# Altium footprint library TPI_time_timer.PcbLib: 36 footprints (part 2 of 3)
Each footprint in its own frame and in the unit in brackets; x right, y up, seen from the top. Pads: shape width x height; smd on the part's side, far side on the other; paste and mask are expansions set on the pad; w line width, h text height; cw(c..) or ccw(c..) is an arc to the next point about the centre after c.
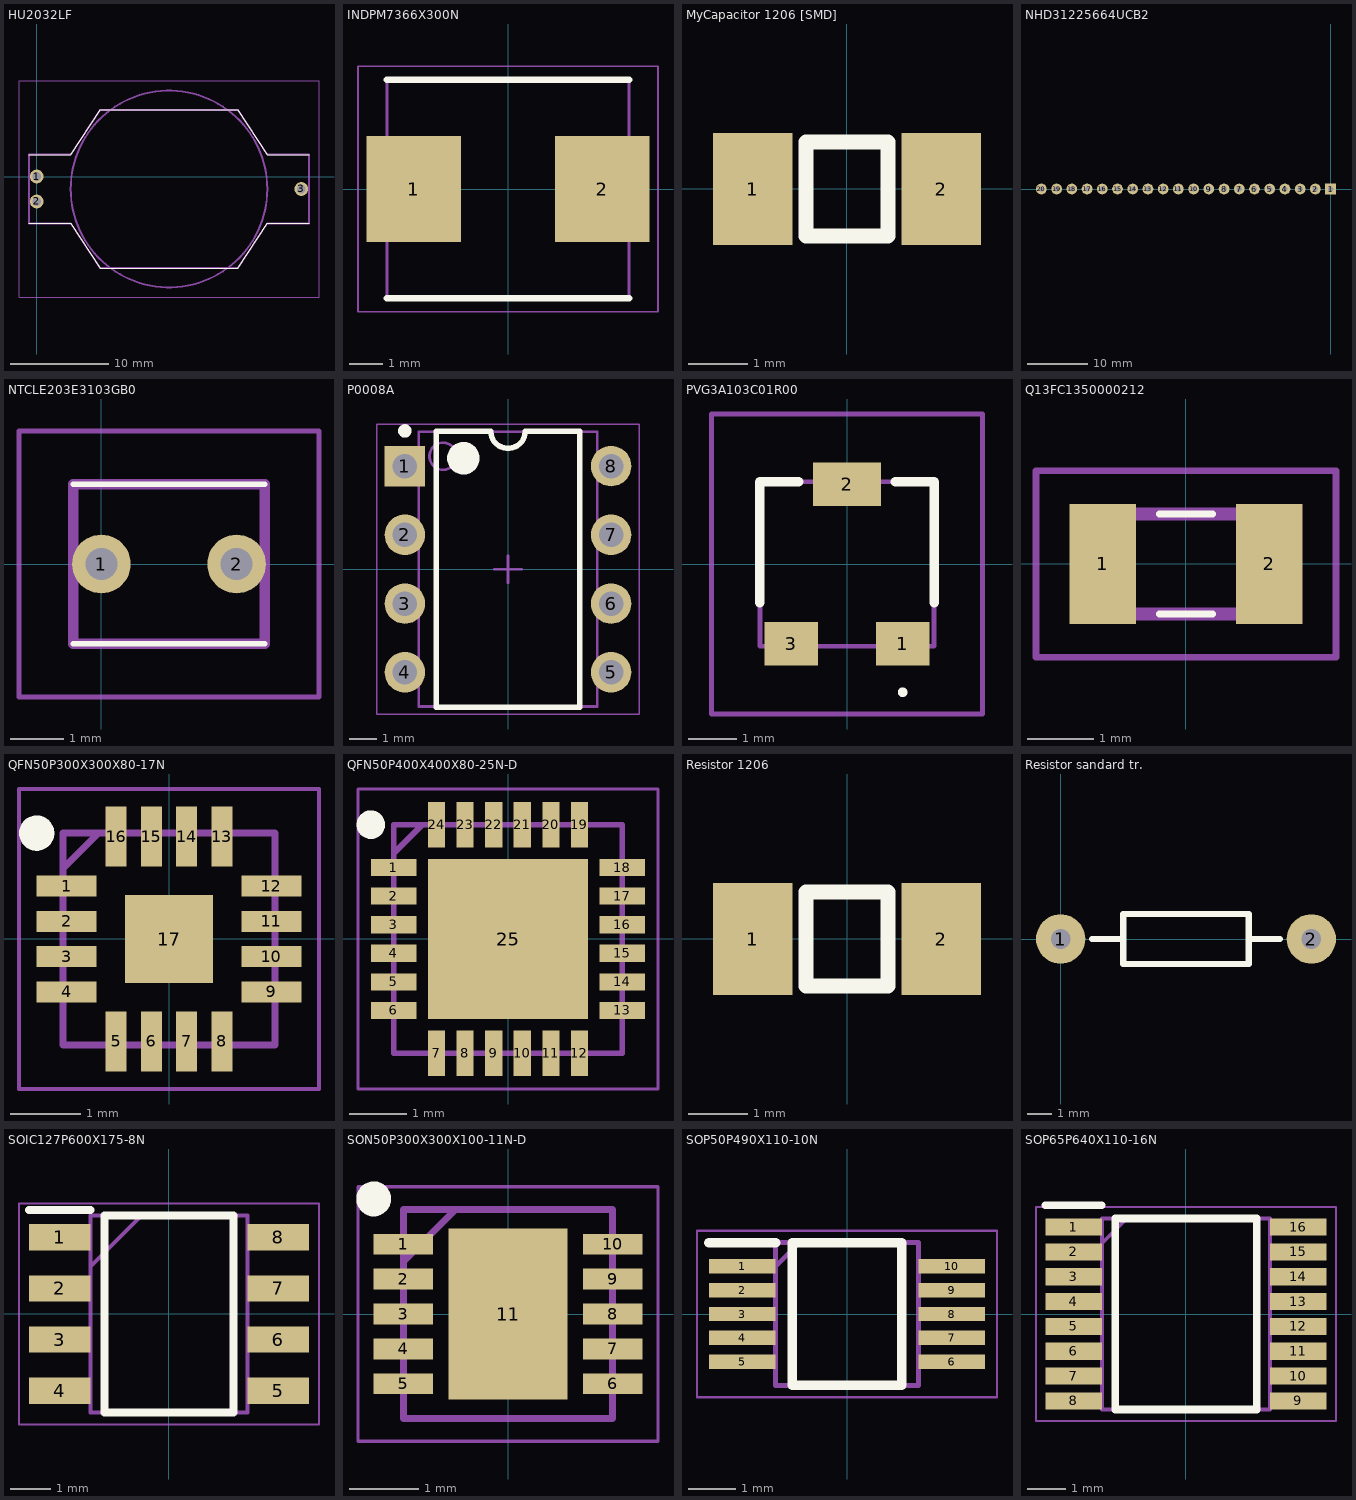
[diagram p1: the footprints below, top view; thin cyan lines are the x and y axes]

## HU2032LF [mm]
pads (3):
  round 1.4 hole 0.9: 1(0,0) 2(0,-2.54) 3(26.9,-1.27)
Top Overlay:
  lines w0.1: -0.8,-4.77 3.45,-4.77 6.45,-9.32 20.45,-9.32 23.45,-4.77 27.7,-4.77 ; -0.8,2.23 3.45,2.23 6.45,6.78 20.45,6.78 23.45,2.23 27.7,2.23
Mechanical 13:
  lines w0.2: -0.8,-4.77 3.45,-4.77 6.45,-9.32 20.45,-9.32 23.45,-4.77 27.7,-4.77 27.7,2.23 23.45,2.23 20.45,6.78 6.45,6.78 3.45,2.23 -0.8,2.23 -0.8,-4.77 ; 3.45,-1.27 cw(c13.45,-1.27) 23.45,-1.27 cw(c13.45,-1.27) 3.45,-1.27
Mechanical 15:
  lines w0.1: -1.8,-12.27 -1.8,9.73 28.7,9.73 28.7,-12.27 -1.8,-12.27
3D body "HU2032-LF.stp": height 5.2, standoff -3.5, extent -0.8,-9.32 27.7,6.78

## INDPM7366X300N [mm]
pads (2):
  rect 2.85x3.2 smd: 1(-2.85,0) 2(2.85,0)
Top Overlay:
  lines w0.2: -3.65,-3.3 3.65,-3.3 ; -3.65,3.3 3.65,3.3
Mechanical 13:
  lines w0.1: -3.65,-3.3 3.65,-3.3 3.65,3.3 -3.65,3.3 -3.65,-3.3
Mechanical 15:
  lines w0.05: -4.525,-3.7 4.525,-3.7 4.525,3.7 -4.525,3.7 -4.525,-3.7
3D body "SRP7028CC-100M.stp": height 3, standoff 0, extent -3.65,-3.3 3.65,3.3

## MyCapacitor 1206 [SMD] [mm]
pads (2):
  rect 1.35x1.9 smd: 1(-1.6,0) 2(1.6,0)
Top Overlay:
  lines w0.254: -0.7,-0.8 -0.7,0.8 0.7,0.8 0.7,-0.8 -0.7,-0.8

## NHD31225664UCB2 [mm]
pads (20):
  rect 1.8x1.8 hole 0.9: 1(0,0)
  round 1.8 hole 0.9: 2(-2.54,0) 3(-5.08,0) 4(-7.62,0) 5(-10.16,0) 6(-12.7,0) 7(-15.24,0) 8(-17.78,0) 9(-20.32,0) 10(-22.86,0) 11(-25.4,0) 12(-27.94,0) 13(-30.48,0) 14(-33.02,0) 15(-35.56,0) 16(-38.1,0) 17(-40.64,0) 18(-43.18,0) 19(-45.72,0) 20(-48.26,0)

## NTCLE203E3103GB0 [mm]
pads (2):
  round 1.1 hole 0.6: 1(0,0) 2(2.54,0)
Top Overlay:
  lines w0.1: -0.53,-1.5 3.07,-1.5 ; -0.53,1.5 3.07,1.5
Mechanical 13:
  lines w0.2: -0.53,-1.5 3.07,-1.5 3.07,1.5 -0.53,1.5 -0.53,-1.5
Mechanical 15:
  lines w0.1: -1.55,-2.5 4.09,-2.5 4.09,2.5 -1.55,2.5 -1.55,-2.5
3D body "NTCLE203E3103GB0.stp": height 9.1, standoff -5, extent -0.53,-1.5 3.07,1.5

## P0008A [mm] "DIP, 8-Leads, Body 10.15x6.6mm, Pitch 2.54mm"
height 5.08
pads (8):
  rect 1.5x1.5 hole 0.9: 1(-3.81,3.81)
  round 1.5 hole 0.9: 2(-3.81,1.27) 3(-3.81,-1.27) 4(-3.81,-3.81) 5(3.81,-3.81) 6(3.81,-1.27) 7(3.81,1.27) 8(3.81,3.81)
Top Overlay:
  circle w0.25: c-3.81,5.11 r0.125
  circle w0.6: c-1.65,4.1 r0.3
  lines w0.2: -2.65,-5.1 -2.65,5.1 -0.635,5.1 ccw(c0,5.1) 0.635,5.1 2.65,5.1 2.65,-5.1 -2.65,-5.1
Mechanical 13:
  circle w0.1: c-2.4,4.175 r0.5
  lines w0.1: -3.3,-5.075 -3.3,5.075 3.3,5.075 3.3,-5.075 -3.3,-5.075
Mechanical 15:
  lines w0.05: -4.85,-5.35 -4.85,5.35 4.85,5.35 4.85,-5.35 -4.85,-5.35
  lines w0.1: -0.5,0 0.5,0 ; 0,-0.5 0,0.5
3D body: height 2.66, standoff 0, extent -3.945,3.31 -3.675,4.31
3D body: height 2.93, standoff 2.66, extent -3.945,3.31 -3.3,4.31
3D body: height 0, standoff -1.6, extent -3.945,3.45 -3.675,4.17
3D body: height 2.66, standoff 0, extent -3.945,0.77 -3.675,1.77
3D body: height 2.93, standoff 2.66, extent -3.945,0.77 -3.3,1.77
3D body: height 0, standoff -1.6, extent -3.945,0.91 -3.675,1.63
3D body: height 2.66, standoff 0, extent -3.945,-1.77 -3.675,-0.77
3D body: height 2.93, standoff 2.66, extent -3.945,-1.77 -3.3,-0.77
3D body: height 0, standoff -1.6, extent -3.945,-1.63 -3.675,-0.91
3D body: height 2.66, standoff 0, extent -3.945,-4.31 -3.675,-3.31
3D body: height 2.93, standoff 2.66, extent -3.945,-4.31 -3.3,-3.31
3D body: height 0, standoff -1.6, extent -3.945,-4.17 -3.675,-3.45
3D body: height 2.66, standoff 0, extent 3.675,-4.31 3.945,-3.31
3D body: height 2.93, standoff 2.66, extent 3.3,-4.31 3.945,-3.31
3D body: height 0, standoff -1.6, extent 3.675,-4.17 3.945,-3.45
3D body: height 2.66, standoff 0, extent 3.675,-1.77 3.945,-0.77
3D body: height 2.93, standoff 2.66, extent 3.3,-1.77 3.945,-0.77
3D body: height 0, standoff -1.6, extent 3.675,-1.63 3.945,-0.91
3D body: height 2.66, standoff 0, extent 3.675,0.77 3.945,1.77
3D body: height 2.93, standoff 2.66, extent 3.3,0.77 3.945,1.77
3D body: height 0, standoff -1.6, extent 3.675,0.91 3.945,1.63
3D body: height 2.66, standoff 0, extent 3.675,3.31 3.945,4.31
3D body: height 2.93, standoff 2.66, extent 3.3,3.31 3.945,4.31
3D body: height 0, standoff -1.6, extent 3.675,3.45 3.945,4.17
3D body: height 5.08, standoff 0.51, extent -3.3,-5.075 3.3,5.075

## PVG3A103C01R00 [mm]
pads (3):
  rect 1.1x0.9 smd: 1(1.15,-1.65) 3(-1.15,-1.65)
  rect 1.4x0.9 smd: 2(0,1.65)
Top Overlay:
  lines w0.1: 1.15,-2.7 ccw(c1.15,-2.65) 1.15,-2.6 ccw(c1.15,-2.65) 1.15,-2.7
  lines w0.2: -1.8,-0.8 -1.8,1.7 -1,1.7 ; 1,1.7 1.8,1.7 1.8,-0.8
Mechanical 13:
  lines w0.1: -1.8,-1.7 1.8,-1.7 1.8,1.7 -1.8,1.7 -1.8,-1.7
Mechanical 15:
  lines w0.1: -2.8,-3.1 2.8,-3.1 2.8,3.1 -2.8,3.1 -2.8,-3.1
3D body "PVG3A103C01R00.stp": height 1.8, standoff -1.8, extent -1.8,0 1.8,2

## Q13FC1350000212 [mm]
pads (2):
  rect 1x1.8 smd: 1(-1.25,0) 2(1.25,0)
Top Overlay:
  lines w0.1: -0.4,-0.75 0.4,-0.75 ; -0.4,0.75 0.4,0.75
Mechanical 13:
  lines w0.2: -1.6,-0.75 1.6,-0.75 1.6,0.75 -1.6,0.75 -1.6,-0.75
Mechanical 15:
  lines w0.1: -2.25,-1.4 2.25,-1.4 2.25,1.4 -2.25,1.4 -2.25,-1.4

## QFN50P300X300X80-17N [mm]
pads (17):
  rect 0.85x0.3 smd: 1(-1.45,0.75) 2(-1.45,0.25) 3(-1.45,-0.25) 4(-1.45,-0.75) 9(1.45,-0.75) 10(1.45,-0.25) 11(1.45,0.25) 12(1.45,0.75)
  rect 0.3x0.85 smd: 5(-0.75,-1.45) 6(-0.25,-1.45) 7(0.25,-1.45) 8(0.75,-1.45) 13(0.75,1.45) 14(0.25,1.45) 15(-0.25,1.45) 16(-0.75,1.45)
  rect 1.25x1.25 smd: 17(0,0)
Top Overlay:
  circle w0.25: c-1.875,1.5 r0.125
Mechanical 13:
  lines w0.1: -1.5,1 -1,1.5 ; -1.5,-1.5 -1.5,1.5 1.5,1.5 1.5,-1.5 -1.5,-1.5
Mechanical 15:
  lines w0.05: -2.125,-2.125 -2.125,2.125 2.125,2.125 2.125,-2.125 -2.125,-2.125
3D body "MAX98357AETE+.stp": height 0.8, standoff 0, extent -1.55,-1.55 1.55,1.55

## QFN50P400X400X80-25N-D [mm]
pads (25):
  rect 0.8x0.3 smd: 1(-2,1.25) 2(-2,0.75) 3(-2,0.25) 4(-2,-0.25) 5(-2,-0.75) 6(-2,-1.25) 13(2,-1.25) 14(2,-0.75) 15(2,-0.25) 16(2,0.25) 17(2,0.75) 18(2,1.25)
  rect 0.3x0.8 smd: 7(-1.25,-2) 8(-0.75,-2) 9(-0.25,-2) 10(0.25,-2) 11(0.75,-2) 12(1.25,-2) 19(1.25,2) 20(0.75,2) 21(0.25,2) 22(-0.25,2) 23(-0.75,2) 24(-1.25,2)
  rect 2.8x2.8 smd: 25(0,0)
Top Overlay:
  circle w0.25: c-2.4,2 r0.125
Mechanical 13:
  lines w0.1: -2,1.5 -1.5,2 ; -2,-2 2,-2 2,2 -2,2 -2,-2
Mechanical 15:
  lines w0.05: -2.625,-2.625 2.625,-2.625 2.625,2.625 -2.625,2.625 -2.625,-2.625
3D body "CP2105-F01-GMR.stp": height 0.8, standoff 0, extent -2.05,-2.05 2.05,2.05

## Resistor 1206 [mm]
pads (2):
  rect 1.35x1.9 smd: 1(-1.6,0) 2(1.6,0)
Top Overlay:
  lines w0.254: -0.7,-0.8 0.7,-0.8 0.7,0.8 -0.7,0.8 -0.7,-0.8
3D body: height 1, standoff 0, extent 1.4,-0.8 1.9,0.8
3D body: height 1, standoff 0, extent -1.9,-0.8 -1.4,0.8
3D body: height 1, standoff 0, extent -1.4,-0.8 1.4,0.8

## Resistor sandard tr. [mm]
pads (2):
  round 2 hole 0.8: 1(0,0) 2(10.16,0)
Top Overlay:
  lines w0.254: 1.27,0 2.54,0 ; 7.62,0 8.89,0 ; 2.54,-1.016 2.54,1.016 7.62,1.016 7.62,-1.016 2.54,-1.016
Mechanical 3:
3D body: height 1.27, standoff 0.76, extent -0.254,-0.254 0.254,0.254
3D body: height 1.27, standoff 0.76, extent 0,-0.254 10.16,0.254
3D body: height 1.02, standoff 0, extent 9.906,-0.254 10.414,0.254
3D body: height 1.02, standoff 0, extent -0.254,-0.254 0.254,0.254
3D body: height 2.03, standoff 0, extent 2.54,-1.016 7.62,1.016
3D body: height 1.27, standoff 0.76, extent 9.906,-0.254 10.414,0.254

## SOIC127P600X175-8N [mm]
pads (8):
  rect 1.525x0.65 smd: 1(-2.712,1.905) 2(-2.712,0.635) 3(-2.712,-0.635) 4(-2.712,-1.905) 5(2.712,-1.905) 6(2.712,-0.635) 7(2.712,0.635) 8(2.712,1.905)
Top Overlay:
  lines w0.2: -3.475,2.58 -1.95,2.58 ; -1.6,-2.45 1.6,-2.45 1.6,2.45 -1.6,2.45 -1.6,-2.45
Mechanical 13:
  lines w0.1: -1.95,1.18 -0.68,2.45 ; -1.95,-2.45 1.95,-2.45 1.95,2.45 -1.95,2.45 -1.95,-2.45
Mechanical 15:
  lines w0.05: -3.725,-2.75 3.725,-2.75 3.725,2.75 -3.725,2.75 -3.725,-2.75
3D body "NE555DR.stp": height 1.75, standoff 0, extent -3,-2.45 3,2.45

## SON50P300X300X100-11N-D [mm]
pads (11):
  rect 0.85x0.3 smd: 1(-1.5,1) 2(-1.5,0.5) 3(-1.5,0) 4(-1.5,-0.5) 5(-1.5,-1) 6(1.5,-1) 7(1.5,-0.5) 8(1.5,0) 9(1.5,0.5) 10(1.5,1)
  rect 1.7x2.45 smd: 11(0,0)
Top Overlay:
  circle w0.25: c-1.925,1.65 r0.125
Mechanical 13:
  lines w0.1: -1.5,0.75 -0.75,1.5 ; -1.5,-1.5 -1.5,1.5 1.5,1.5 1.5,-1.5 -1.5,-1.5
Mechanical 15:
  lines w0.05: -2.15,-1.825 -2.15,1.825 2.15,1.825 2.15,-1.825 -2.15,-1.825
3D body "MCP73833T-AMI_MF.stp": height 1, standoff 0, extent -1.55,-1.5 1.55,1.5

## SOP50P490X110-10N [mm]
pads (10):
  rect 1.4x0.3 smd: 1(-2.2,1) 2(-2.2,0.5) 3(-2.2,0) 4(-2.2,-0.5) 5(-2.2,-1) 6(2.2,-1) 7(2.2,-0.5) 8(2.2,0) 9(2.2,0.5) 10(2.2,1)
Top Overlay:
  lines w0.2: -2.9,1.5 -1.5,1.5 ; -1.15,-1.5 -1.15,1.5 1.15,1.5 1.15,-1.5 -1.15,-1.5
Mechanical 13:
  lines w0.1: -1.5,1 -1,1.5 ; -1.5,-1.5 -1.5,1.5 1.5,1.5 1.5,-1.5 -1.5,-1.5
Mechanical 15:
  lines w0.05: -3.15,-1.75 -3.15,1.75 3.15,1.75 3.15,-1.75 -3.15,-1.75
3D body "MCP73833-BZI_UN.stp": height 1.1, standoff 0, extent -2.45,-1.5 2.45,1.5

## SOP65P640X110-16N [mm]
pads (16):
  rect 1.475x0.45 smd: 1(-2.938,2.275) 2(-2.938,1.625) 3(-2.938,0.975) 4(-2.938,0.325) 5(-2.938,-0.325) 6(-2.938,-0.975) 7(-2.938,-1.625) 8(-2.938,-2.275) 9(2.938,-2.275) 10(2.938,-1.625) 11(2.938,-0.975) 12(2.938,-0.325) 13(2.938,0.325) 14(2.938,0.975) 15(2.938,1.625) 16(2.938,2.275)
Top Overlay:
  lines w0.2: -3.675,2.85 -2.2,2.85 ; -1.85,-2.5 1.85,-2.5 1.85,2.5 -1.85,2.5 -1.85,-2.5
Mechanical 13:
  lines w0.1: -2.2,1.85 -1.55,2.5 ; -2.2,-2.5 2.2,-2.5 2.2,2.5 -2.2,2.5 -2.2,-2.5
Mechanical 15:
  lines w0.05: -3.925,-2.8 3.925,-2.8 3.925,2.8 -3.925,2.8 -3.925,-2.8
3D body "SC16IS740IPW,128.stp": height 1.1, standoff 0, extent -3.2,-2.5 3.2,2.5